# Altium footprint library H06.24-1B.PcbLib: 1 footprints
Each footprint in its own frame and in the unit in brackets; x right, y up, seen from the top. Pads: shape width x height; smd on the part's side, far side on the other; paste and mask are expansions set on the pad; w line width, h text height; cw(c..) or ccw(c..) is an arc to the next point about the centre after c.
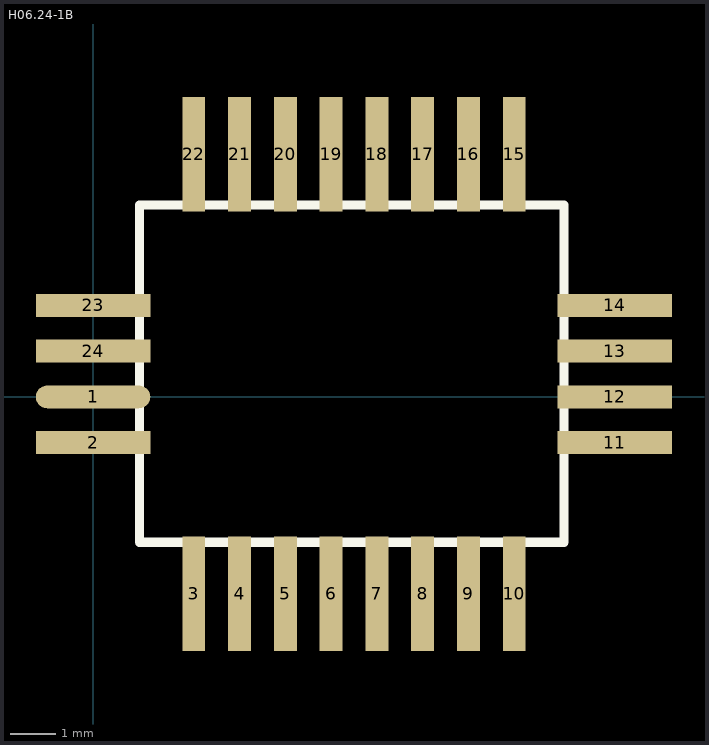
[diagram p0: the footprint, top view; thin cyan lines are the x and y axes]

## H06.24-1B [mm]
height 5.08
pads (24):
  oval 2.5x0.5 smd: 1(0,0)
  rect 2.5x0.5 smd: 2(0,-1) 11(11.4,-1) 12(11.4,0) 13(11.4,1) 14(11.4,2) 23(0,2) 24(0,1)
  rect 0.5x2.5 smd: 3(2.2,-4.3) 4(3.2,-4.3) 5(4.2,-4.3) 6(5.2,-4.3) 7(6.2,-4.3) 8(7.2,-4.3) 9(8.2,-4.3) 10(9.2,-4.3) 15(9.2,5.3) 16(8.2,5.3) 17(7.2,5.3) 18(6.2,5.3) 19(5.2,5.3) 20(4.2,5.3) 21(3.2,5.3) 22(2.2,5.3)
Top Overlay:
  lines w0.2: 1.016,-3.175 1.016,4.191 10.287,4.191 10.287,-3.175 1.016,-3.175
3D body: height 3.05, standoff 0, extent 1.016,-3.175 10.287,4.191